# Altium schematic symbol library LCD_FPC.SchLib: 1 symbol
Pins are listed as number, name and electrical type; pins without a type are passive.

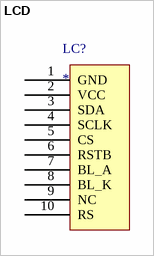
[diagram p0: symbol LCD]

## LCD
designator LC?
footprint FPC0.5-WT-10P (长：9.2mm，宽：5.2mm，高：2mm 淘宝ID:黄晶宝石   店铺网址:https://shop463601444.taobao.com)
pins: 1 GND, 2 VCC, 3 SDA, 4 SCLK, 5 CS, 6 RSTB, 7 BL_A, 8 BL_K, 9 NC, 10 RS